# Altium schematic symbol library PADS_SchLib.SchLib: 6 symbols
Pins are listed as number, name and electrical type; pins without a type are passive.

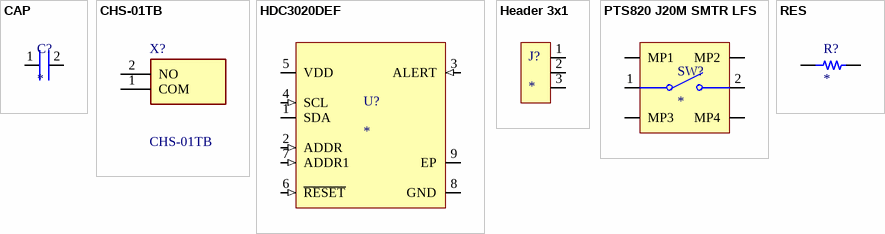
[diagram p0: symbols CAP to RES]

## CAP
designator C?
pins: 1, 2

## CHS-01TB
designator X?
DIP Switches / SIP Switches smd slide 1 pos., gull wing, washable with seal tape, 1/2 pitch; Manufacturer_Name: Nidec Copal; Geometry.Height: 2.5mm; Mouser Part Number: 229-CHS-01TB; Mouser Price/Stock: https://www.mouser.co.uk/ProductDetail/Nidec-Components/CHS-01TB?qs=XeJtXLiO41QqOM3HIs2O2A%3D%3D; Manufacturer_Part_Number: CHS-01TB; Datasheet Link: https://www.nidec-copal-electronics.com/e/catalog/switch/chs.pdf
footprint CHS01TB
pins: 1 COM, 2 NO

## HDC3020DEF
designator U?
HDC3020DEF
pins: 1 SDA (io), 2 ADDR (in), 3 ALERT (in), 4 SCL (in), 5 VDD, 6 ~{RESET} (in), 7 ADDR1 (in), 8 GND, 9 EP

## Header 3x1
designator J?
pins: 1, 2, 3

## PTS820 J20M SMTR LFS
designator SW?
PTS820 J20M SMTR LFS
pins: 1, 2, ?1 MP3, ?2 MP1, ?3 MP2, ?4 MP4

## RES
designator R?
footprint RES
pins: 1, 2